# EAGLE library part LIPO-BMS-CHARGER (library icmi-custom-parts)
LIPO BMS/charger for single cells This is the symbol for a combined LiPo charger / protection circuit, usually found on ebay. These modules use a TP4056 for charging and a DW01 for cell protection. Please note that IN- and OUT- are connected to each other, whereas all other pins are are seperate. The module also features a Micro-USB connector, not represented in the package here.
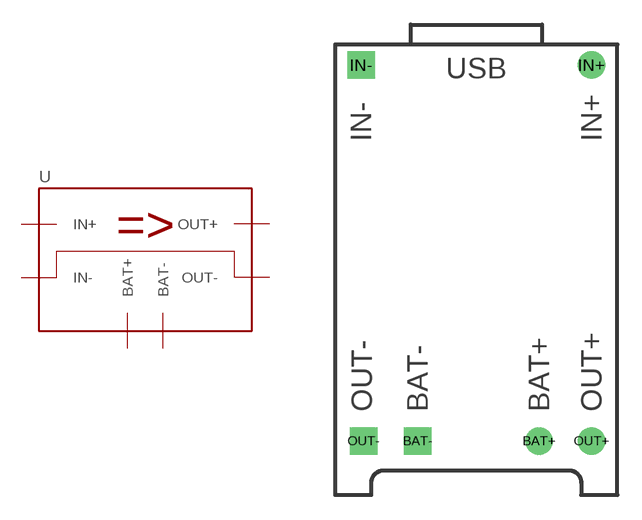
[diagram p4: symbol with the pads of LIPO-BMS-CHARGER; footprint LIPO-BMS-CHARGER]

Designator prefix -

## LIPO-BMS-CHARGER-MODULE  [LIPO-BMS-CHARGER]
BAT+  BAT+  pwr
BAT-  BAT-  pwr
IN+  IN+  pwr
IN-  IN-  pwr
OUT+  OUT+  pwr
OUT-  OUT-  pwr

## Footprint LIPO-BMS-CHARGER (pad centres in mm)
LIPO BMS/charger for single cells This is the symbol for a combined LiPo charger / protection circuit, usually found on ebay. These modules use a TP4056 for charging and a DW01 for cell protection. Please note that IN- and OUT- are connected to each other, whereas all other pins are are seperate. The module also features a Micro-USB connector, not represented in the package here.
drill 0.8 pad 1.676: BAT+ 12.43,3.3; IN+ 15.63,26.23; OUT+ 15.63,3.3
drill 0.8 pad 1.676 square: BAT- 5.02,3.3; IN- 1.57,26.23; OUT- 1.72,3.3